# Altium schematic symbol library PS,AC-DC,5Vout,5W,PBO-5C-5.Schlib: 1 symbol
Pins are listed as number, name and electrical type; pins without a type are passive.

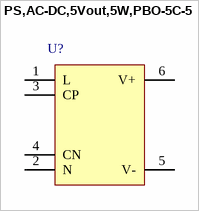
[diagram p0: symbol PS,AC-DC,5Vout,5W,PBO-5C-5]

## PS,AC-DC,5Vout,5W,PBO-5C-5
designator U?
pins: 1 L (power), 2 N (power), 3 CP, 4 CN, 5 V- (power), 6 V+ (power)